# EAGLE library part XMC1100 (library LIBRARY_embedded_software_systems)
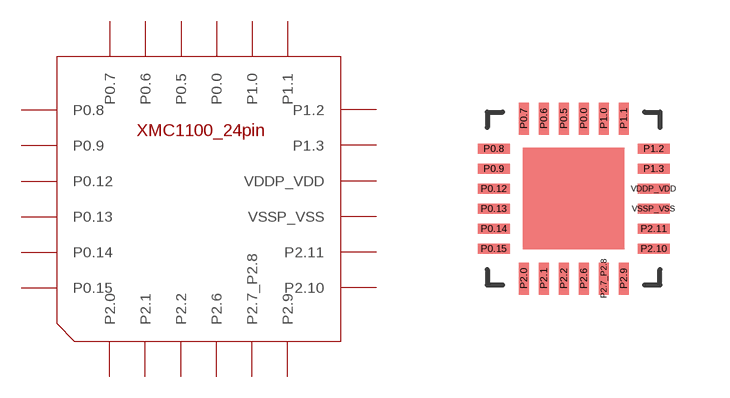
[diagram p1: symbol with the pads of XMC1100_PG_VQFN_24; footprint XMC1100_PG_VQFN_24]

Designator prefix -

## XMC1100  [XMC1100_PG_VQFN_24]
P0.0  P0.0
P0.5  P0.5
P0.6  P0.6
P0.7  P0.7
P0.8  P0.8
P0.9  P0.9
P0.12  P0.12
P0.13  P0.13
P0.14  P0.14
P0.15  P0.15
P1.0  P1.0
P1.1  P1.1
P1.2  P1.2
P1.3  P1.3
P2.0  P2.0
P2.1  P2.1
P2.2  P2.2
P2.6  P2.6
P2.7_P2.8  P2.7_P2.8
P2.9  P2.9
P2.10  P2.10
P2.11  P2.11
VDDP_VDD  VDDP_VDD
VSSP_VSS  VSSP_VSS

## Footprint XMC1100_PG_VQFN_24 (pad centres in mm)
Infineon XMC1100 Line MCU
smd 0.25 x 0.8: P0.0 0.25,2; P0.5 -0.25,2; P0.6 -0.75,2; P0.7 -1.25,2; P1.0 0.75,2; P1.1 1.25,2; P2.0 -1.25,-2; P2.1 -0.75,-2; P2.2 -0.25,-2; P2.6 0.25,-2; P2.7_P2.8 0.75,-2; P2.9 1.25,-2
smd 0.8 x 0.25: P0.8 -2,1.25; P0.9 -2,0.75; P0.12 -2,0.25; P0.13 -2,-0.25; P0.14 -2,-0.75; P0.15 -2,-1.25; P1.2 2,1.25; P1.3 2,0.75; P2.10 2,-1.25; P2.11 2,-0.75; VDDP_VDD 2,0.25; VSSP_VSS 2,-0.25